# Altium footprint library ESP32_USB_C.PcbLib: 15 footprints
Each footprint in its own frame and in the unit in brackets; x right, y up, seen from the top. Pads: shape width x height; smd on the part's side, far side on the other; paste and mask are expansions set on the pad; w line width, h text height; cw(c..) or ccw(c..) is an arc to the next point about the centre after c.
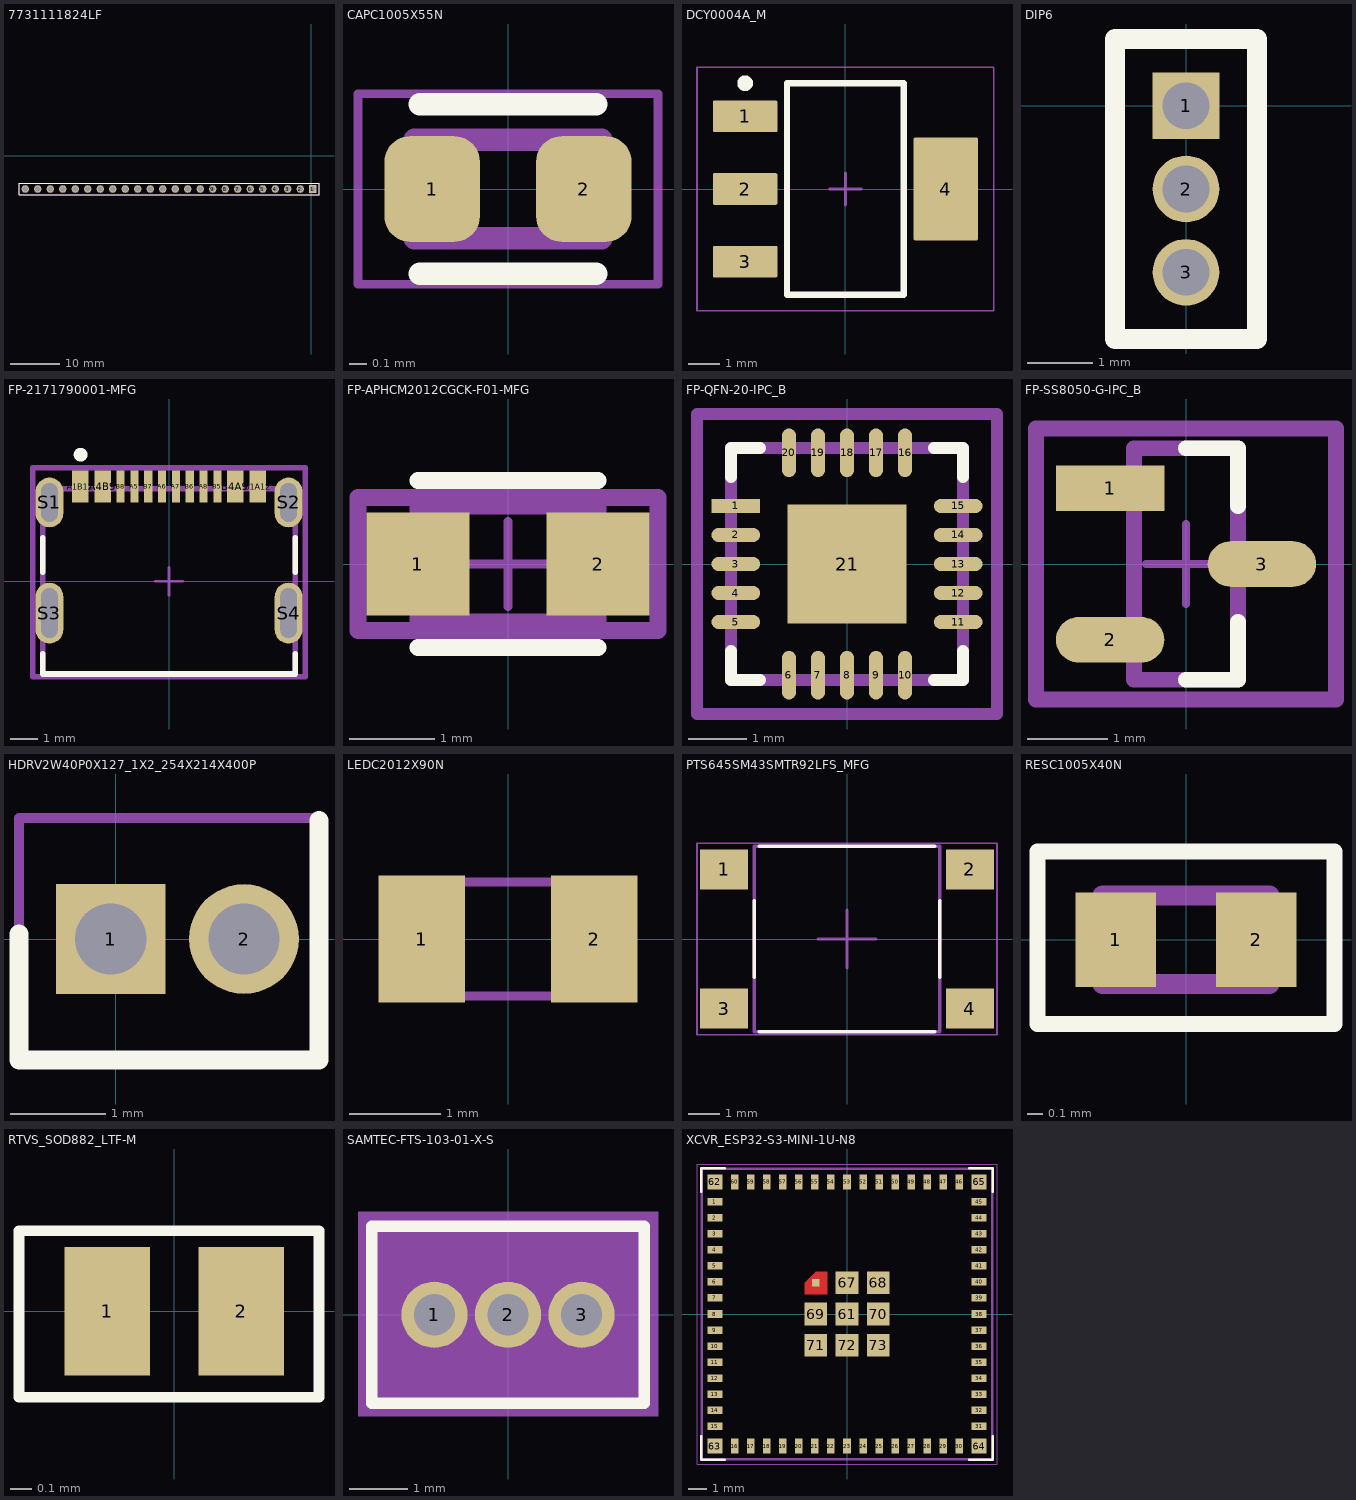
[diagram p0: the footprints below, top view; thin cyan lines are the x and y axes]

## 7731111824LF [mm]
pads (24):
  rect 1.53x1.53 hole 1.02: 1(0.279,-6.731)
  round 1.53 hole 1.02: 2(-2.261,-6.731) 3(-4.801,-6.731) 4(-7.341,-6.731) 5(-9.881,-6.731) 6(-12.421,-6.731) 7(-14.961,-6.731) 8(-17.501,-6.731) 9(-20.041,-6.731) 10(-22.581,-6.731) 11(-25.121,-6.731) 12(-27.661,-6.731) 13(-30.201,-6.731) 14(-32.741,-6.731) 15(-35.281,-6.731) 16(-37.821,-6.731) 17(-40.361,-6.731) 18(-42.901,-6.731) 19(-45.441,-6.731) 20(-47.981,-6.731) 21(-50.521,-6.731) 22(-53.061,-6.731) 23(-55.601,-6.731) 24(-58.141,-6.731)
Top Overlay:
  lines w0.2: -59.411,-7.931 -59.411,-5.531 1.549,-5.531 1.549,-7.931 -59.411,-7.931
Top Courtyard:
  lines w0.1: -59.411,-7.931 -59.411,-5.531 1.549,-5.531 1.549,-7.931 -59.411,-7.931
3D body "77311-118-24LF.stp": height 8.6, standoff -2.9, extent -59.207,-7.961 1.353,-5.551

## CAPC1005X55N [mm]
pads (2):
  rrect53% 0.54x0.6 smd: 1(-0.43,0) 2(0.43,0)
Top Overlay:
  lines w0.127: -0.5,-0.48 0.5,-0.48 ; -0.5,0.48 0.5,0.48
Top 3D Body:
  lines w0.127: -0.53,-0.28 0.53,-0.28 0.53,0.28 -0.53,0.28 -0.53,-0.28
Top Courtyard:
  lines w0.05: -0.85,-0.54 0.85,-0.54 0.85,0.54 -0.85,0.54 -0.85,-0.54
3D body "CC0402MRX5R6BB475.STEP": height 0.5, standoff 0, extent -0.5,-0.296 0.5,0.254

## DCY0004A_M [mm] "SOT223, 4-Leads, Body 6.7x3.7mm, Pitch 2.3mm, IPC Low Density"
height 1.8
pads (4):
  rrect10% 2.05x1 smd: 1(-3.175,2.3) 2(-3.175,0) 3(-3.175,-2.3)
  rrect5% 2.05x3.25 smd: 4(3.175,0)
Top Overlay:
  circle w0.25: c-3.175,3.35 r0.125
  lines w0.2: -1.85,-3.35 -1.85,3.35 1.85,3.35 1.85,-3.35 -1.85,-3.35
Mechanical 1:
  text ".Designator" at -1.651,-0.381 h0.8
Top 3D Body:
  lines w0.1: -1.85,-3.35 -1.85,3.35 1.85,3.35 1.85,-3.35 -1.85,-3.35
Top Courtyard:
  lines w0.05: -4.7,-3.85 -4.7,3.85 4.7,3.85 4.7,-3.85 -4.7,-3.85
  lines w0.1: -0.5,0 0.5,0 ; 0,-0.5 0,0.5
3D body "SOT-223.stp": height 1.62, standoff -0.03, extent -3.5,-3.25 3.5,3.25

## DIP6 [mil]
pads (3):
  rect 40x40 hole 28: 1(0,0)
  round 40 hole 28: 2(0,-50) 3(0,-100)
Top Overlay:
  lines w12: -42.5,-140 -42.5,40 42.5,40 42.5,-130 42.5,-140 -42.5,-140

## FP-2171790001-MFG [mm]
pads (16):
  rect 0.6x1.15 smd paste+0 mask+0: A1B12(-3.2,3.425) A4B9(-2.4,3.425) B1A12(3.2,3.425) B4A9(2.4,3.425)
  rect 0.3x1.15 smd paste+0 mask+0: A5(-1.25,3.425) A6(-0.25,3.425) A7(0.25,3.425) A8(1.25,3.425) B5(1.75,3.425) B6(0.75,3.425) B7(-0.75,3.425) B8(-1.75,3.425)
  rrect100% 1x1.8 hole 1.4 slot 0.6 at 0 deg paste-2539.97 mask+0: S1(-4.32,2.85) S2(4.32,2.85)
  rrect100% 1x2.2 hole 1.8 slot 0.6 at 0 deg paste-2539.97 mask+0: S3(-4.32,-1.15) S4(4.32,-1.15)
Top Overlay:
  circle w0.25: c-3.195,4.575 r0.125
  lines w0.2: -4.57,-2.625 -4.57,-3.35 4.57,-3.35 4.57,-2.625 ; -4.57,0.325 -4.57,1.575 ; 4.57,0.325 4.57,1.575
Top Assembly:
  lines w0.2: -4.92,-3.45 4.92,-3.45 4.92,4.1 -4.92,4.1 -4.92,-3.45
  text ".Designator" at 0,0.513 h1
Top 3D Body:
  lines w0.2: -4.57,-3.35 4.57,-3.35 4.57,3.35 -4.57,3.35 -4.57,-3.35
Top Courtyard:
  lines w0.2: -4.92,-3.45 4.92,-3.45 4.92,4.1 -4.92,4.1 -4.92,-3.45
Top Component Center:
  lines w0.1: -0.5,0 0.5,0 ; 0,-0.5 0,0.5
3D body "Conn_Molex_2171790001_eec.STEP": height 0.25, standoff 0, extent -4.92,-3.45 4.92,4.1

## FP-APHCM2012CGCK-F01-MFG [mm]
pads (2):
  rect 1.2x1.2 smd paste+0 mask+0: 1(-1.05,0) 2(1.05,0)
Top Overlay:
  lines w0.2: -1.05,-0.975 1.05,-0.975 ; -1.05,0.975 1.05,0.975
Top Assembly:
  lines w0.2: -1.75,-0.775 -1.75,0.775 1.75,0.775 1.75,-0.775 -1.75,-0.775
  text ".Designator" at 0,-0.001 h1
Top 3D Body:
  lines w0.2: -1.05,-0.675 -1.05,0.675 1.05,0.675 1.05,-0.675 -1.05,-0.675
Top Courtyard:
  lines w0.2: -1.75,-0.775 -1.75,0.775 1.75,0.775 1.75,-0.775 -1.75,-0.775
Top Component Center:
  lines w0.1: -0.5,0 0.5,0 ; 0,-0.5 0,0.5
3D body "Diode_Kingbright_APHCM2012CGCK-F01_eec.STEP": height 0.25, standoff 0, extent -1.75,-0.775 1.75,0.775

## FP-QFN-20-IPC_B [mm]
pads (21):
  rect 0.84x0.242 smd paste+0 mask+0: 1(-1.916,1)
  rrect100% 0.84x0.242 smd paste+0 mask+0: 2(-1.916,0.5) 3(-1.916,0) 4(-1.916,-0.5) 5(-1.916,-1) 11(1.916,-1) 12(1.916,-0.5) 13(1.916,0) 14(1.916,0.5) 15(1.916,1)
  rrect100% 0.242x0.84 smd paste+0 mask+0: 6(-1,-1.916) 7(-0.5,-1.916) 8(0,-1.916) 9(0.5,-1.916) 10(1,-1.916) 16(1,1.916) 17(0.5,1.916) 18(0,1.916) 19(-0.5,1.916) 20(-1,1.916)
  rect 2.05x2.05 smd paste-1000 mask+0: 21(0,0)
Top Overlay:
  lines w0.2: -2,-1.5 -2,-2 -1.5,-2 ; -2,1.5 -2,2 -1.5,2 ; 1.5,-2 2,-2 2,-1.5 ; 1.5,2 2,2 2,1.5
Top Paste:
  rectangle: -0.648,-0.648 0.648,0.648
Top Assembly:
  lines w0.2: -2.585,-2.585 -2.585,2.585 2.585,2.585 2.585,-2.585 -2.585,-2.585
  text ".Designator" at 0,0.188 h1
Top 3D Body:
  lines w0.2: -2,-2 -2,2 2,2 2,-2 -2,-2
Top Courtyard:
  lines w0.2: -2.585,-2.585 -2.585,2.585 2.585,2.585 2.585,-2.585 -2.585,-2.585
Top Component Center:
  lines w0.1: -0.5,0 0.5,0 ; 0,-0.5 0,0.5
3D body "IC_FTDI_FT231XQ-R_eec.STEP": height 0.25, standoff 0, extent -2.585,-2.585 2.585,2.585

## FP-SS8050-G-IPC_B [mm]
pads (3):
  rect 1.357x0.572 smd paste+0 mask+0: 1(-0.951,0.95)
  rrect100% 1.357x0.572 smd paste+0 mask+0: 2(-0.951,-0.95) 3(0.951,0)
Top Overlay:
  lines w0.2: 0,-1.45 0.65,-1.45 0.65,-0.725 ; 0,1.45 0.65,1.45 0.65,0.725
Top Assembly:
  lines w0.2: -1.879,-1.7 -1.879,1.7 1.879,1.7 1.879,-1.7 -1.879,-1.7
  text ".Designator" at 0,-0.001 h1
Top 3D Body:
  lines w0.2: -0.65,-1.45 -0.65,1.45 0.65,1.45 0.65,-1.45 -0.65,-1.45
Top Courtyard:
  lines w0.2: -1.879,-1.7 -1.879,1.7 1.879,1.7 1.879,-1.7 -1.879,-1.7
Top Component Center:
  lines w0.1: -0.5,0 0.5,0 ; 0,-0.5 0,0.5
3D body "Trans_Comchip_SS8050-G_eec.STEP": height 0.25, standoff 0, extent -1.879,-1.7 1.879,1.7

## HDRV2W40P0X127_1X2_254X214X400P [mm]
pads (2):
  rect 1.15x1.15 / inner round 1.15 / far side rect 1.15x1.15 hole 0.75: 1(-0.051,0)
  round 1.15 hole 0.75: 2(1.346,0)
Top Overlay:
  lines w0.202: -1.016,0.051 -1.016,-1.27 2.134,-1.27 2.134,1.245
Bottom Designator:
  lines w0.102: -1.016,-1.27 2.134,-1.27 2.134,1.27 -1.016,1.27 -1.016,-1.27
3D body "GRPB021VWVN-RC.stp": height 4, standoff -2.3, extent -0.635,-1.07 1.905,1.07

## LEDC2012X90N [mm]
pads (2):
  rect 0.95x1.4 smd: 1(-0.95,0) 2(0.95,0)
Top Courtyard:
  lines w0.1: -1,0.208 -0.583,0.625 ; -1,-0.625 1,-0.625 1,0.625 -1,0.625 -1,-0.625
3D body "HSMC-C170-T0000.stp": height 0.8, standoff 0, extent -1,-0.625 1,0.625

## PTS645SM43SMTR92LFS_MFG [mm] "Recommended Land Pattern"
height 4.4
pads (4):
  rect 1.55x1.3 smd paste+0 mask+0: 1(-3.975,2.25) 2(3.975,2.25) 3(-3.975,-2.25) 4(3.975,-2.25)
Top Overlay:
  lines w0.127: -3,-1.225 -3,1.225 ; -2.825,-3 2.825,-3 ; -2.825,3 2.825,3 ; 3,-1.225 3,1.225
Top Assembly:
  lines w0.1: -3,-3 3,-3 3,3 -3,3 -3,-3
Top Designator:
  text ".Designator" at 0,-0.001 h1
Top Courtyard:
  lines w0.05: -4.85,-3.1 4.85,-3.1 4.85,3.1 -4.85,3.1 -4.85,-3.1
Top Component Center:
  lines w0.1: -0.93,0 0.93,0 ; 0,-0.93 0,0.93
3D body "PTS645SM43SMTR92LFS.STEP": height 5.3, standoff 0, extent -4.5,-3 4.5,3

## RESC1005X40N [mm]
pads (2):
  rect 0.51x0.6 smd: 1(-0.445,0) 2(0.445,0)
Top Overlay:
  lines w0.1: -0.94,-0.533 -0.94,0.559 0.94,0.559 0.94,-0.533 -0.94,-0.533
Top 3D Body:
  lines w0.127: -0.53,-0.28 0.53,-0.28 0.53,0.28 -0.53,0.28 -0.53,-0.28
Top Courtyard:
  lines w0.05: -0.95,-0.55 0.95,-0.55 0.95,0.55 -0.95,0.55 -0.95,-0.55
3D body "step_temp.STEP": height 0.4, standoff 0, extent -0.5,-0.25 0.5,0.25

## RTVS_SOD882_LTF-M [mil]
pads (2):
  rect 15.94x23.97 smd paste+0 mask+0: 1(-12.5,0) 2(12.5,0)
Top Overlay:
  lines w1.97: -29,-16 -21,-16 27,-16 27,15 -21,15 -29,15 -29,-16
3D body "RTVS_SOD882_LTF.step": height 22.09, standoff 0, extent -21.5,-12.99 21.5,12.99

## SAMTEC-FTS-103-01-X-S [mil]
pads (3):
  round 45 hole 27.95 mask+0: 1(-50,0) 2(0,0) 3(50,0)
Top Overlay:
  lines w7.87: -92.72,-60.24 92.72,-60.24 92.72,60.24 -92.72,60.24 -92.72,-60.24
Top Solder:
  circle w0: c50,0 r24.49
  circle w0: c0,0 r24.49
  circle w0: c-50,0 r24.49
Bottom Solder:
  circle w0: c50,0 r24.49
  circle w0: c0,0 r24.49
  circle w0: c-50,0 r24.49
Top 3D Body:
  lines w3.94: -92.72,-60.24 -92.72,60.24 92.72,60.24 92.72,-60.24 -92.72,-60.24 ; -75,-42.52 -25,-42.52 25,-42.52 75,-42.52 75,42.52 25,42.52 -25,42.52 -75,42.52 -75,-42.52 ; -57.99,-7.99 -42.01,-7.99 -42.01,7.99 -57.99,7.99 -57.99,-7.99 ; -7.99,-7.99 7.99,-7.99 7.99,7.99 -7.99,7.99 -7.99,-7.99 ; 42.01,-7.99 57.99,-7.99 57.99,7.99 42.01,7.99 42.01,-7.99
Top Courtyard:
  region: 101.97,-68.98 -101.97,-68.98 -101.97,70 101.97,70
3D body "FTS-103-01-F-S.stp": height 90, standoff -154, extent -75,-42.5 75,42.5

## XCVR_ESP32-S3-MINI-1U-N8 [mm]
height 2.55
pads (73):
  rect 0.8x0.4 smd: 1(-7,5.95) 2(-7,5.1) 3(-7,4.25) 4(-7,3.4) 5(-7,2.55) 6(-7,1.7) 7(-7,0.85) 8(-7,0) 9(-7,-0.85) 10(-7,-1.7) 11(-7,-2.55) 12(-7,-3.4) 13(-7,-4.25) 14(-7,-5.1) 15(-7,-5.95) 31(7,-5.95) 32(7,-5.1) 33(7,-4.25) 34(7,-3.4) 35(7,-2.55) 36(7,-1.7) 37(7,-0.85) 38(7,0) 39(7,0.85) 40(7,1.7) 41(7,2.55) 42(7,3.4) 43(7,4.25) 44(7,5.1) 45(7,5.95)
  rect 0.4x0.8 smd: 16(-5.95,-7) 17(-5.1,-7) 18(-4.25,-7) 19(-3.4,-7) 20(-2.55,-7) 21(-1.7,-7) 22(-0.85,-7) 23(0,-7) 24(0.85,-7) 25(1.7,-7) 26(2.55,-7) 27(3.4,-7) 28(4.25,-7) 29(5.1,-7) 30(5.95,-7) 46(5.95,7) 47(5.1,7) 48(4.25,7) 49(3.4,7) 50(2.55,7) 51(1.7,7) 52(0.85,7) 53(0,7) 54(-0.85,7) 55(-1.7,7) 56(-2.55,7) 57(-3.4,7) 58(-4.25,7) 59(-5.1,7) 60(-5.95,7)
  rect 1.2x1.2 smd: 61(0,0) 67(0,1.65) 68(1.65,1.65) 69(-1.65,0) 70(1.65,0) 71(-1.65,-1.65) 72(0,-1.65) 73(1.65,-1.65)
  rect 0.8x0.8 smd: 62(-7,7) 63(-7,-7) 64(7,-7) 65(7,7)
  rect 0.4x0.4 smd paste-1 mask+0: 66(-1.65,1.65)
Top Layer:
  region: -1.05,1.05 -2.25,1.05 -2.25,1.65 -1.65,2.25 -1.05,2.25
Top Overlay:
  lines w0.127: -7.72,-6.47 -7.72,-7.72 -6.47,-7.72 ; -7.72,6.47 -7.72,7.72 -6.47,7.72 ; 6.47,-7.72 7.72,-7.72 7.72,-6.47 ; 6.47,7.72 7.72,7.72 7.72,6.47
Top Paste:
  region: -1.05,1.05 -2.25,1.05 -2.25,1.65 -1.65,2.25 -1.05,2.25
Top Solder:
  region: -0.95,0.95 -2.35,0.95 -2.35,1.7 -1.7,2.35 -0.95,2.35
Top 3D Body:
  lines w0.127: -7.7,-7.7 -7.7,7.7 7.7,7.7 7.7,-7.7 -7.7,-7.7
Top Courtyard:
  lines w0.05: -7.95,-7.95 7.95,-7.95 7.95,7.95 -7.95,7.95 -7.95,-7.95
3D body "step_temp.STEP": height 2.55, standoff 0, extent -7.7,-7.7 7.7,7.7